# Altium schematic symbol library IC_LT1932.SchLib: 1 symbol
Pins are listed as number, name and electrical type; pins without a type are passive.

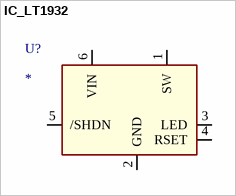
[diagram p0: symbol IC_LT1932]

## IC_LT1932
designator U?
pins: 1 SW, 2 GND, 3 LED, 4 RSET, 5 /SHDN, 6 VIN